# EAGLE library part VNH2SP30 (library vacha)
FULLY INTEGRATED H-BRIDGE MOTOR DRIVER Source: http://pdf1.alldatasheet.com/datasheet-pdf/view/84563/STMICROELECTRONICS/VNH3SP30.html
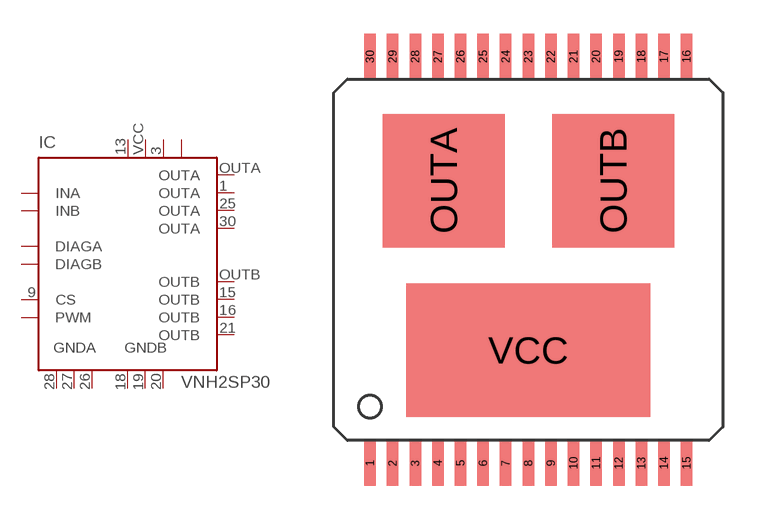
[diagram p0: symbol with the pads of MULTIPOWERSO-30; footprint MULTIPOWERSO-30]

Designator prefix IC

## VNH2SP30  [MULTIPOWERSO-30]
1  OUTA  pas
3  VCC  pwr
5  INA  in
6  DIAGA  oc
8  PWM  in
9  CS
10  DIAGB  oc
11  INB  in
13  VCC  pwr
15  OUTB  pas
16  OUTB  pas
18  GNDB  pwr
19  GNDB  pwr
20  GNDB  pwr
21  OUTB  pas
23  VCC  pwr
25  OUTA  pas
26  GNDA  pwr
27  GNDA  pwr
28  GNDA  pwr
30  OUTA  pas
OUTA  OUTA  pas
OUTB  OUTB  pas
VCC  VCC  pwr

## Footprint MULTIPOWERSO-30 (pad centres in mm)
MultiPowerSO-30 Source: http://pdf1.alldatasheet.com/datasheet-pdf/view/84563/STMICROELECTRONICS/VNH3SP30.html
smd 0.508 x 2: 1 -7,-9; 2 -6,-9; 3 -5,-9; 4 -4,-9; 5 -3,-9; 6 -2,-9; 7 -1,-9; 8 0,-9; 9 1,-9; 10 2,-9; 11 3,-9; 12 4,-9; 13 5,-9; 14 6,-9; 15 7,-9; 16 7,9; 17 6,9; 18 5,9; 19 4,9; 20 3,9; 21 2,9; 22 1,9; 23 0,9; 24 -1,9; 25 -2,9; 26 -3,9; 27 -4,9; 28 -5,9; 29 -6,9; 30 -7,9
smd 5.4 x 5.9: OUTA -3.75,3.5; OUTB 3.75,3.5
smd 10.8 x 5.9: VCC 0,-4